# Altium footprint library Miscellaneous Devices LC.PcbLib: 559 footprints (part 14 of 35)
Each footprint in its own frame and in the unit in brackets; x right, y up, seen from the top. Pads: shape width x height; smd on the part's side, far side on the other; paste and mask are expansions set on the pad; w line width, h text height; cw(c..) or ccw(c..) is an arc to the next point about the centre after c.
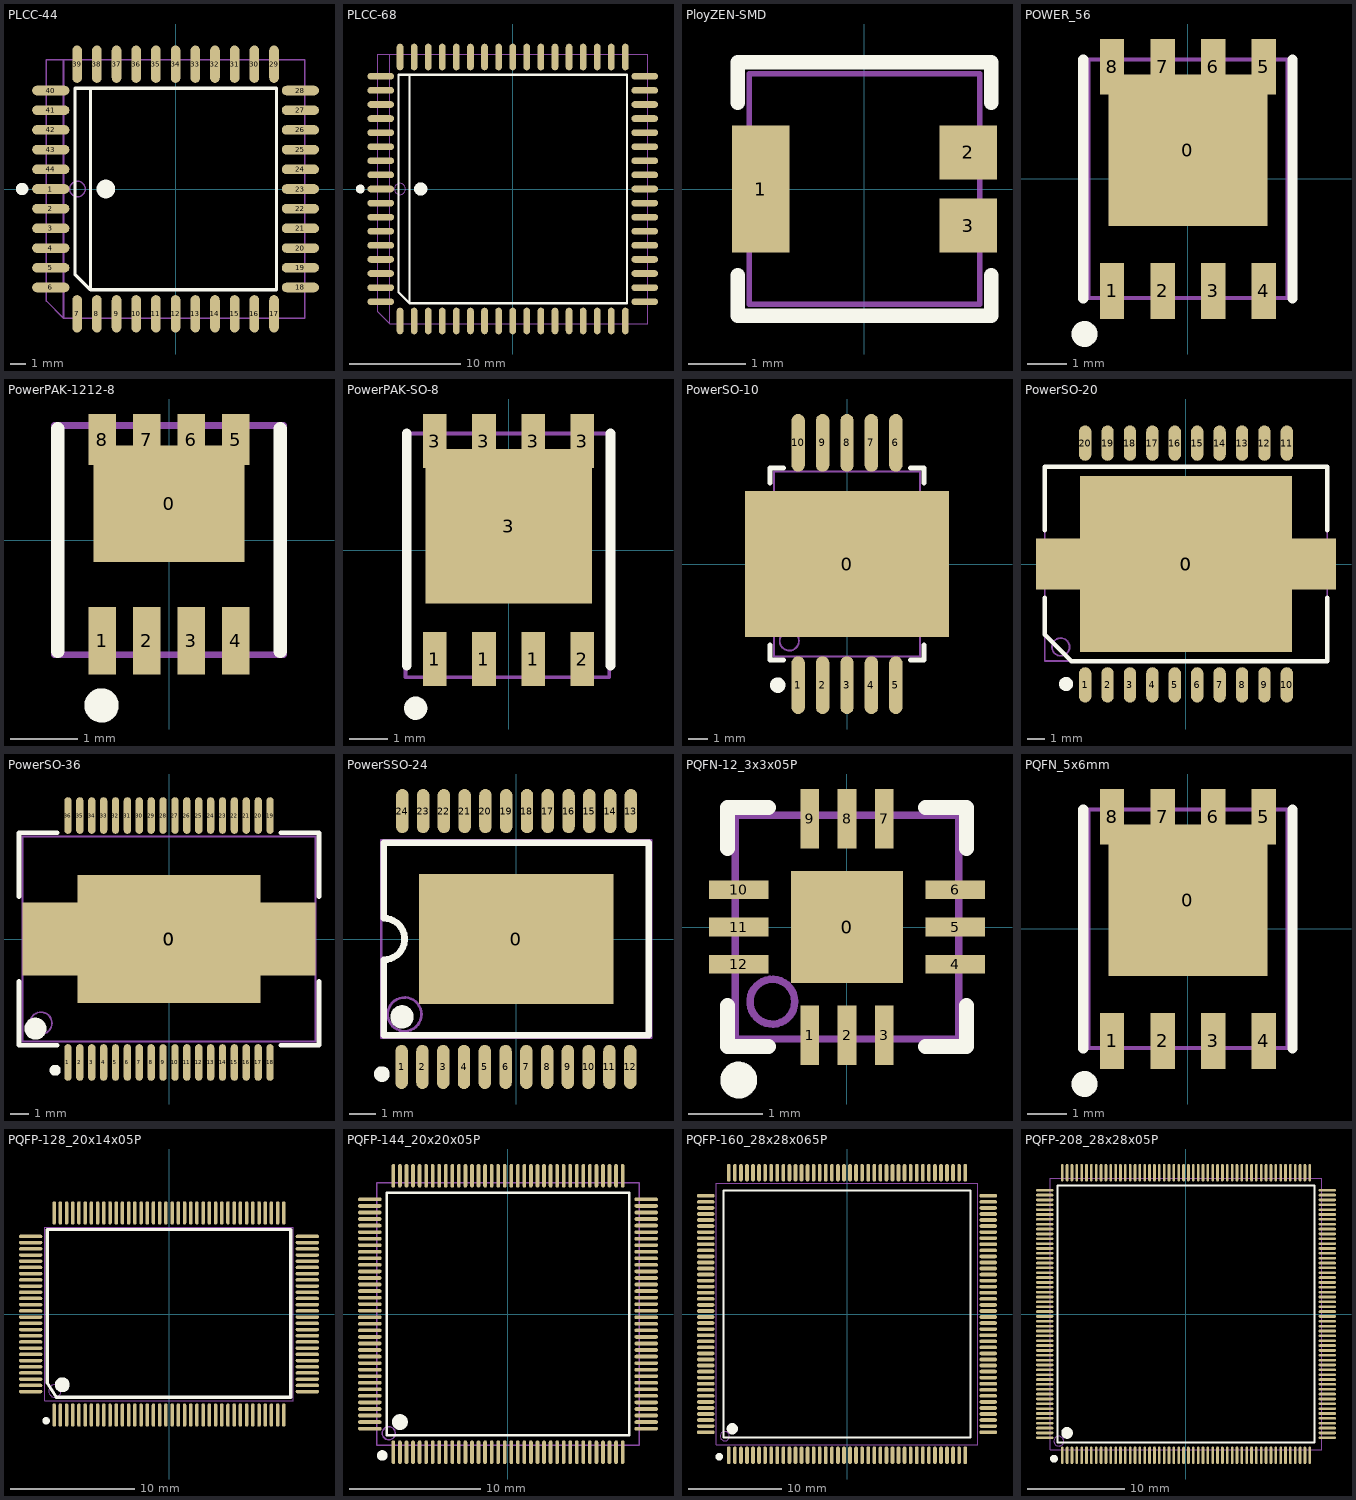
[diagram p13: the footprints below, top view; thin cyan lines are the x and y axes]

## PLCC-44 [mm]
pads (44):
  oval 2.4x0.62 smd: 1(-8.05,0) 2(-8.05,-1.27) 3(-8.05,-2.54) 4(-8.05,-3.81) 5(-8.05,-5.08) 6(-8.05,-6.35) 18(8.05,-6.35) 19(8.05,-5.08) 20(8.05,-3.81) 21(8.05,-2.54) 22(8.05,-1.27) 23(8.05,0) 24(8.05,1.27) 25(8.05,2.54) 26(8.05,3.81) 27(8.05,5.08) 28(8.05,6.35) 40(-8.05,6.35) 41(-8.05,5.08) 42(-8.05,3.81) 43(-8.05,2.54) 44(-8.05,1.27)
  oval 0.62x2.4 smd: 7(-6.35,-8.05) 8(-5.08,-8.05) 9(-3.81,-8.05) 10(-2.54,-8.05) 11(-1.27,-8.05) 12(0,-8.05) 13(1.27,-8.05) 14(2.54,-8.05) 15(3.81,-8.05) 16(5.08,-8.05) 17(6.35,-8.05) 29(6.35,8.05) 30(5.08,8.05) 31(3.81,8.05) 32(2.54,8.05) 33(1.27,8.05) 34(0,8.05) 35(-1.27,8.05) 36(-2.54,8.05) 37(-3.81,8.05) 38(-5.08,8.05) 39(-6.35,8.05)
Top Overlay:
  circle w0.4: c-9.9,0 r0.2
  circle w0.6: c-4.5,0 r0.3
  lines w0.2: -5.5,6.5 -5.5,-6.5 ; -5.5,-6.5 -6.5,-5.5 -6.5,6.5 6.5,6.5 6.5,-6.5 -5.5,-6.5
Mechanical 13:
  circle w0.1: c-6.33,0 r0.5
  lines w0.1: -7.23,8.33 -7.23,-8.33 ; -7.23,-8.33 8.33,-8.33 8.33,8.33 -8.33,8.33 -8.33,-7.23 -7.23,-8.33

## PLCC-68 [mm]
pads (68):
  oval 2.4x0.6 smd: 1(-11.9,0) 2(-11.9,-1.27) 3(-11.9,-2.54) 4(-11.9,-3.81) 5(-11.9,-5.08) 6(-11.9,-6.35) 7(-11.9,-7.62) 8(-11.9,-8.89) 9(-11.9,-10.16) 27(11.9,-10.16) 28(11.9,-8.89) 29(11.9,-7.62) 30(11.9,-6.35) 31(11.9,-5.08) 32(11.9,-3.81) 33(11.9,-2.54) 34(11.9,-1.27) 35(11.9,0) 36(11.9,1.27) 37(11.9,2.54) 38(11.9,3.81) 39(11.9,5.08) 40(11.9,6.35) 41(11.9,7.62) 42(11.9,8.89) 43(11.9,10.16) 61(-11.9,10.16) 62(-11.9,8.89) 63(-11.9,7.62) 64(-11.9,6.35) 65(-11.9,5.08) 66(-11.9,3.81) 67(-11.9,2.54) 68(-11.9,1.27)
  oval 0.6x2.4 smd: 10(-10.16,-11.9) 11(-8.89,-11.9) 12(-7.62,-11.9) 13(-6.35,-11.9) 14(-5.08,-11.9) 15(-3.81,-11.9) 16(-2.54,-11.9) 17(-1.27,-11.9) 18(0,-11.9) 19(1.27,-11.9) 20(2.54,-11.9) 21(3.81,-11.9) 22(5.08,-11.9) 23(6.35,-11.9) 24(7.62,-11.9) 25(8.89,-11.9) 26(10.16,-11.9) 44(10.16,11.9) 45(8.89,11.9) 46(7.62,11.9) 47(6.35,11.9) 48(5.08,11.9) 49(3.81,11.9) 50(2.54,11.9) 51(1.27,11.9) 52(0,11.9) 53(-1.27,11.9) 54(-2.54,11.9) 55(-3.81,11.9) 56(-5.08,11.9) 57(-6.35,11.9) 58(-7.62,11.9) 59(-8.89,11.9) 60(-10.16,11.9)
Top Overlay:
  circle w0.4: c-13.75,0 r0.2
  circle w0.6: c-8.3,0 r0.3
  lines w0.2: -9.3,10.3 -9.3,-10.3 ; -9.3,-10.3 10.3,-10.3 10.3,10.3 -10.3,10.3 -10.3,-9.3 -9.3,-10.3
Mechanical 13:
  circle w0.1: c-10.165,0 r0.5
  lines w0.1: -11.065,12.165 -11.065,-12.165 ; -11.065,-12.165 -12.165,-11.065 -12.165,12.165 12.165,12.165 12.165,-12.165 -11.065,-12.165

## PloyZEN-SMD [mm] "Polymer Enhanced Zener Diode"
pads (3):
  rect 1x2.21 smd: 1(-1.8,0)
  rect 1x0.94 smd: 2(1.8,0.635) 3(1.8,-0.635)
Top Overlay:
  lines w0.254: -2.2,-1.5 -2.2,-2.2 2.2,-2.2 2.2,-1.5 ; -2.2,1.5 -2.2,2.2 2.2,2.2 2.2,1.5
Mechanical 13:
  lines w0.1: -2,-2 2,-2 2,2 -2,2 -2,-2

## POWER_56 [mm]
pads (9):
  rect 4x3.81 smd: 0(0,0.716)
  rect 0.61x1.4 smd: 1(-1.905,-2.816) 2(-0.635,-2.816) 3(0.635,-2.816) 4(1.905,-2.816) 5(1.905,2.816) 6(0.635,2.816) 7(-0.635,2.816) 8(-1.905,2.816)
Top Overlay:
  circle w0.4: c-2.6,-3.9 r0.125
  lines w0.254: -2.63,-3 -2.63,3 ; 2.63,-3 2.63,3
Mechanical 13:
  lines w0.1: -2.5,-3 2.5,-3 2.5,3 -2.5,3 -2.5,-3

## PowerPAK-1212-8 [mm]
pads (9):
  rect 2.235x1.725 smd mask+0.051: 0(0,0.54)
  rect 0.41x1 smd mask+0.051: 1(-0.99,-1.492) 2(-0.33,-1.492) 3(0.33,-1.492) 4(0.99,-1.492)
  rect 0.41x0.76 smd mask+0.051: 5(0.99,1.492) 6(0.33,1.492) 7(-0.33,1.492) 8(-0.99,1.492)
Top Overlay:
  circle w0.254: c-1,-2.45 r0.127
  lines w0.2: -1.65,-1.65 -1.65,1.65 ; 1.65,-1.65 1.65,1.65
Mechanical 13:
  lines w0.1: -1.7,-1.7 1.7,-1.7 1.7,1.7 -1.7,1.7 -1.7,-1.7

## PowerPAK-SO-8 [mm]
pads (9):
  rect 0.61x1.4 smd: 1(-1.905,-2.816) 1(-0.635,-2.816) 1(0.635,-2.816) 2(1.905,-2.816) 3(-1.905,2.816) 3(-0.635,2.816) 3(0.635,2.816) 3(1.905,2.816)
  rect 4.3x4 smd: 3(0,0.616)
Top Overlay:
  circle w0.3: c-2.4,-4.084 r0.15
  lines w0.254: -2.63,-2.984 -2.63,3.016 ; 2.63,-2.984 2.63,3.016
Mechanical 13:
  lines w0.1: -2.66,-3.284 -2.66,3.016 2.6,3.016 2.6,-3.284 -2.66,-3.284
3D body "User Library-PowerPAK SO-8 (S).STEP": height 1.04, standoff 0, extent -2.575,-3.184 2.575,2.966

## PowerSO-10 [mm]
pads (11):
  rect 10.6x7.6 smd: 0(0,0)
  oval 0.7x3 smd: 1(-2.54,-6.3) 2(-1.27,-6.3) 3(0,-6.3) 4(1.27,-6.3) 5(2.54,-6.3) 6(2.54,6.3) 7(1.27,6.3) 8(0,6.3) 9(-1.27,6.3) 10(-2.54,6.3)
Top Overlay:
  circle w0.4: c-3.6,-6.3 r0.2
  lines w0.254: -4,-4.2 -4,-5 -3.3,-5 ; -4,4.2 -4,5 -3.3,5 ; 3.3,-5 4,-5 4,-4.2 ; 3.3,5 4,5 4,4.2
Mechanical 13:
  circle w0.1: c-3,-4 r0.5
  lines w0.1: -3.8,-4.8 -3.8,4.8 3.8,4.8 3.8,-4.8 -3.8,-4.8

## PowerSO-20 [mm]
pads (22):
  rect 17x2.9 smd: 0(0,0)
  rect 12x10 smd: 0(0,0)
  oval 0.7x2 smd: 1(-5.715,-6.85) 2(-4.445,-6.85) 3(-3.175,-6.85) 4(-1.905,-6.85) 5(-0.635,-6.85) 6(0.635,-6.85) 7(1.905,-6.85) 8(3.175,-6.85) 9(4.445,-6.85) 10(5.715,-6.85) 11(5.715,6.85) 12(4.445,6.85) 13(3.175,6.85) 14(1.905,6.85) 15(0.635,6.85) 16(-0.635,6.85) 17(-1.905,6.85) 18(-3.175,6.85) 19(-4.445,6.85) 20(-5.715,6.85)
Top Overlay:
  circle w0.4: c-6.8,-6.8 r0.2
  lines w0.254: -8,-1.9 -8,-4 -6.5,-5.5 8,-5.5 8,-1.9 ; -8,1.9 -8,5.5 8,5.5 8,1.9
Mechanical 13:
  circle w0.1: c-7.1,-4.7 r0.5
  lines w0.1: -8,-5.5 8,-5.5 8,5.5 -8,5.5 -8,-5.5
3D body "PowerSO20.STEP": height 3.6, standoff 0, extent -7.9,-7.35 7.9,7.15

## PowerSO-36 [mm]
pads (38):
  rect 16x4 smd: 0(0,0)
  rect 10x7 smd: 0(0,0)
  oval 0.4x2 smd mask+0.051: 1(-5.525,-6.75) 2(-4.875,-6.75) 3(-4.225,-6.75) 4(-3.575,-6.75) 5(-2.925,-6.75) 6(-2.275,-6.75) 7(-1.625,-6.75) 8(-0.975,-6.75) 9(-0.325,-6.75) 10(0.325,-6.75) 11(0.975,-6.75) 12(1.625,-6.75) 13(2.275,-6.75) 14(2.925,-6.75) 15(3.575,-6.75) 16(4.225,-6.75) 17(4.875,-6.75) 18(5.525,-6.75) 19(5.525,6.75) 20(4.875,6.75) 21(4.225,6.75) 22(3.575,6.75) 23(2.925,6.75) 24(2.275,6.75) 25(1.625,6.75) 26(0.975,6.75) 27(0.325,6.75) 28(-0.325,6.75) 29(-0.975,6.75) 30(-1.625,6.75) 31(-2.275,6.75) 32(-2.925,6.75) 33(-3.575,6.75) 34(-4.225,6.75) 35(-4.875,6.75) 36(-5.525,6.75)
Top Overlay:
  circle w0.6: c-7.3,-4.9 r0.3
  circle w0.3: c-6.225,-7.175 r0.15
  lines w0.254: -8.2,-2.3 -8.2,-5.8 -6.1,-5.8 ; -8.2,2.3 -8.2,5.8 -6.1,5.8 ; 6.1,-5.8 8.2,-5.8 8.2,-2.3 ; 6.1,5.8 8.2,5.8 8.2,2.3
Mechanical 13:
  circle w0.1: c-7,-4.6 r0.6
  lines w0.1: -8,-5.6 8,-5.6 8,5.6 -8,5.6 -8,-5.6

## PowerSSO-24 [mm]
pads (25):
  rect 7.5x5 smd: 0(0,0)
  oval 0.48x1.7 smd: 1(-4.412,-4.925) 2(-3.612,-4.925) 3(-2.812,-4.925) 4(-2.012,-4.925) 5(-1.212,-4.925) 6(-0.412,-4.925) 7(0.388,-4.925) 8(1.188,-4.925) 9(1.988,-4.925) 10(2.788,-4.925) 11(3.588,-4.925) 12(4.388,-4.925) 13(4.412,4.925) 14(3.612,4.925) 15(2.812,4.925) 16(2.012,4.925) 17(1.212,4.925) 18(0.412,4.925) 19(-0.388,4.925) 20(-1.188,4.925) 21(-1.988,4.925) 22(-2.788,4.925) 23(-3.588,4.925) 24(-4.388,4.925)
Top Overlay:
  circle w0.5: c-4.4,-3 r0.2
  circle w0.3: c-5.175,-5.2 r0.15
  lines w0.254: -5.1,-3.7 -5.1,-0.8 ccw(c-5.1,0) -5.1,0.8 -5.1,3.7 5.1,3.7 5.1,-3.7 -5.1,-3.7
Mechanical 13:
  circle w0.1: c-4.3,-2.9 r0.65
  lines w0.1: -5.2,-3.8 5.2,-3.8 5.2,3.8 -5.2,3.8 -5.2,-3.8

## PQFN-12_3x3x05P [mm]
pads (13):
  rect 1.5x1.5 smd mask+0.051: 0(0,0)
  rect 0.25x0.8 smd mask+0.051: 1(-0.5,-1.45) 2(0,-1.45) 3(0.5,-1.45) 7(0.5,1.45) 8(0,1.45) 9(-0.5,1.45)
  rect 0.8x0.25 smd mask+0.051: 4(1.45,-0.5) 5(1.45,0) 6(1.45,0.5) 10(-1.45,0.5) 11(-1.45,0) 12(-1.45,-0.5)
Top Overlay:
  circle w0.254: c-1.45,-2.05 r0.12
  lines w0.2: -1.6,-1.05 -1.6,-1.6 -1.05,-1.6 ; -1.6,1.05 -1.6,1.6 -1.05,1.6 ; 1.05,-1.6 1.6,-1.6 1.6,-1.05 ; 1.05,1.6 1.6,1.6 1.6,1.05
Mechanical 13:
  circle w0.1: c-1,-1 r0.3
  lines w0.1: -1.5,-1.5 -1.5,1.5 1.5,1.5 1.5,-1.5 -1.5,-1.5

## PQFN_5x6mm [mm]
pads (9):
  rect 4x3.81 smd: 0(0,0.716)
  rect 0.61x1.4 smd: 1(-1.905,-2.816) 2(-0.635,-2.816) 3(0.635,-2.816) 4(1.905,-2.816) 5(1.905,2.816) 6(0.635,2.816) 7(-0.635,2.816) 8(-1.905,2.816)
Top Overlay:
  circle w0.4: c-2.6,-3.9 r0.125
  lines w0.254: -2.63,-3 -2.63,3 ; 2.63,-3 2.63,3
Mechanical 13:
  lines w0.1: -2.5,-3 2.5,-3 2.5,3 -2.5,3 -2.5,-3

## PQFP-128_20x14x05P [mm]
pads (128):
  oval 0.28x1.88 smd mask+0.051: 1(-9.25,-8.14) 2(-8.75,-8.14) 3(-8.25,-8.14) 4(-7.75,-8.14) 5(-7.25,-8.14) 6(-6.75,-8.14) 7(-6.25,-8.14) 8(-5.75,-8.14) 9(-5.25,-8.14) 10(-4.75,-8.14) 11(-4.25,-8.14) 12(-3.75,-8.14) 13(-3.25,-8.14) 14(-2.75,-8.14) 15(-2.25,-8.14) 16(-1.75,-8.14) 17(-1.25,-8.14) 18(-0.75,-8.14) 19(-0.25,-8.14) 20(0.25,-8.14) 21(0.75,-8.14) 22(1.25,-8.14) 23(1.75,-8.14) 24(2.25,-8.14) 25(2.75,-8.14) 26(3.25,-8.14) 27(3.75,-8.14) 28(4.25,-8.14) 29(4.75,-8.14) 30(5.25,-8.14) 31(5.75,-8.14) 32(6.25,-8.14) 33(6.75,-8.14) 34(7.25,-8.14) 35(7.75,-8.14) 36(8.25,-8.14) 37(8.75,-8.14) 38(9.25,-8.14) 65(9.25,8.14) 66(8.75,8.14) 67(8.25,8.14) 68(7.75,8.14) 69(7.25,8.14) 70(6.75,8.14) 71(6.25,8.14) 72(5.75,8.14) 73(5.25,8.14) 74(4.75,8.14) 75(4.25,8.14) 76(3.75,8.14) 77(3.25,8.14) 78(2.75,8.14) 79(2.25,8.14) 80(1.75,8.14) 81(1.25,8.14) 82(0.75,8.14) 83(0.25,8.14) 84(-0.25,8.14) 85(-0.75,8.14) 86(-1.25,8.14) 87(-1.75,8.14) 88(-2.25,8.14) 89(-2.75,8.14) 90(-3.25,8.14) 91(-3.75,8.14) 92(-4.25,8.14) 93(-4.75,8.14) 94(-5.25,8.14) 95(-5.75,8.14) 96(-6.25,8.14) 97(-6.75,8.14) 98(-7.25,8.14) 99(-7.75,8.14) 100(-8.25,8.14) 101(-8.75,8.14) 102(-9.25,8.14)
  oval 1.88x0.28 smd mask+0.051: 39(11.14,-6.25) 40(11.14,-5.75) 41(11.14,-5.25) 42(11.14,-4.75) 43(11.14,-4.25) 44(11.14,-3.75) 45(11.14,-3.25) 46(11.14,-2.75) 47(11.14,-2.25) 48(11.14,-1.75) 49(11.14,-1.25) 50(11.14,-0.75) 51(11.14,-0.25) 52(11.14,0.25) 53(11.14,0.75) 54(11.14,1.25) 55(11.14,1.75) 56(11.14,2.25) 57(11.14,2.75) 58(11.14,3.25) 59(11.14,3.75) 60(11.14,4.25) 61(11.14,4.75) 62(11.14,5.25) 63(11.14,5.75) 64(11.14,6.25) 103(-11.14,6.25) 104(-11.14,5.75) 105(-11.14,5.25) 106(-11.14,4.75) 107(-11.14,4.25) 108(-11.14,3.75) 109(-11.14,3.25) 110(-11.14,2.75) 111(-11.14,2.25) 112(-11.14,1.75) 113(-11.14,1.25) 114(-11.14,0.75) 115(-11.14,0.25) 116(-11.14,-0.25) 117(-11.14,-0.75) 118(-11.14,-1.25) 119(-11.14,-1.75) 120(-11.14,-2.25) 121(-11.14,-2.75) 122(-11.14,-3.25) 123(-11.14,-3.75) 124(-11.14,-4.25) 125(-11.14,-4.75) 126(-11.14,-5.25) 127(-11.14,-5.75) 128(-11.14,-6.25)
Top Overlay:
  circle w0.3: c-9.9,-8.6 r0.15
  circle w0.6: c-8.6,-5.7 r0.3
  lines w0.254: -9.8,-5.56 -9.8,6.8 9.8,6.8 9.8,-6.7 -9.087,-6.7 -9.8,-5.56
Mechanical 13:
  circle w0.1: c-9.2,-6.2 r0.5
  lines w0.1: -10,-7 -10,7 10,7 10,-7 -10,-7

## PQFP-144_20x20x05P [mm]
pads (144):
  oval 0.28x1.8 smd mask+0.051: 1(-8.75,-10.55) 2(-8.25,-10.55) 3(-7.75,-10.55) 4(-7.25,-10.55) 5(-6.75,-10.55) 6(-6.25,-10.55) 7(-5.75,-10.55) 8(-5.25,-10.55) 9(-4.75,-10.55) 10(-4.25,-10.55) 11(-3.75,-10.55) 12(-3.25,-10.55) 13(-2.75,-10.55) 14(-2.25,-10.55) 15(-1.75,-10.55) 16(-1.25,-10.55) 17(-0.75,-10.55) 18(-0.25,-10.55) 19(0.25,-10.55) 20(0.75,-10.55) 21(1.25,-10.55) 22(1.75,-10.55) 23(2.25,-10.55) 24(2.75,-10.55) 25(3.25,-10.55) 26(3.75,-10.55) 27(4.25,-10.55) 28(4.75,-10.55) 29(5.25,-10.55) 30(5.75,-10.55) 31(6.25,-10.55) 32(6.75,-10.55) 33(7.25,-10.55) 34(7.75,-10.55) 35(8.25,-10.55) 36(8.75,-10.55) 73(8.75,10.55) 74(8.25,10.55) 75(7.75,10.55) 76(7.25,10.55) 77(6.75,10.55) 78(6.25,10.55) 79(5.75,10.55) 80(5.25,10.55) 81(4.75,10.55) 82(4.25,10.55) 83(3.75,10.55) 84(3.25,10.55) 85(2.75,10.55) 86(2.25,10.55) 87(1.75,10.55) 88(1.25,10.55) 89(0.75,10.55) 90(0.25,10.55) 91(-0.25,10.55) 92(-0.75,10.55) 93(-1.25,10.55) 94(-1.75,10.55) 95(-2.25,10.55) 96(-2.75,10.55) 97(-3.25,10.55) 98(-3.75,10.55) 99(-4.25,10.55) 100(-4.75,10.55) 101(-5.25,10.55) 102(-5.75,10.55) 103(-6.25,10.55) 104(-6.75,10.55) 105(-7.25,10.55) 106(-7.75,10.55) 107(-8.25,10.55) 108(-8.75,10.55)
  oval 1.8x0.28 smd mask+0.051: 37(10.55,-8.75) 38(10.55,-8.25) 39(10.55,-7.75) 40(10.55,-7.25) 41(10.55,-6.75) 42(10.55,-6.25) 43(10.55,-5.75) 44(10.55,-5.25) 45(10.55,-4.75) 46(10.55,-4.25) 47(10.55,-3.75) 48(10.55,-3.25) 49(10.55,-2.75) 50(10.55,-2.25) 51(10.55,-1.75) 52(10.55,-1.25) 53(10.55,-0.75) 54(10.55,-0.25) 55(10.55,0.25) 56(10.55,0.75) 57(10.55,1.25) 58(10.55,1.75) 59(10.55,2.25) 60(10.55,2.75) 61(10.55,3.25) 62(10.55,3.75) 63(10.55,4.25) 64(10.55,4.75) 65(10.55,5.25) 66(10.55,5.75) 67(10.55,6.25) 68(10.55,6.75) 69(10.55,7.25) 70(10.55,7.75) 71(10.55,8.25) 72(10.55,8.75) 109(-10.55,8.75) 110(-10.55,8.25) 111(-10.55,7.75) 112(-10.55,7.25) 113(-10.55,6.75) 114(-10.55,6.25) 115(-10.55,5.75) 116(-10.55,5.25) 117(-10.55,4.75) 118(-10.55,4.25) 119(-10.55,3.75) 120(-10.55,3.25) 121(-10.55,2.75) 122(-10.55,2.25) 123(-10.55,1.75) 124(-10.55,1.25) 125(-10.55,0.75) 126(-10.55,0.25) 127(-10.55,-0.25) 128(-10.55,-0.75) 129(-10.55,-1.25) 130(-10.55,-1.75) 131(-10.55,-2.25) 132(-10.55,-2.75) 133(-10.55,-3.25) 134(-10.55,-3.75) 135(-10.55,-4.25) 136(-10.55,-4.75) 137(-10.55,-5.25) 138(-10.55,-5.75) 139(-10.55,-6.25) 140(-10.55,-6.75) 141(-10.55,-7.25) 142(-10.55,-7.75) 143(-10.55,-8.25) 144(-10.55,-8.75)
Top Overlay:
  circle w0.6: c-8.25,-8.25 r0.3
  circle w0.4: c-9.6,-10.8 r0.2
  lines w0.2: -9.25,-9.25 -9.25,9.25 9.25,9.25 9.25,-9.25 -9.25,-9.25
Mechanical 13:
  circle w0.1: c-9.1,-9.1 r0.5
  lines w0.1: -10,-10 -10,10 10,10 10,-10 -10,-10

## PQFP-160_28x28x065P [mm]
pads (160):
  oval 0.4x1.88 smd mask+0.051: 1(-12.675,-15.14) 2(-12.025,-15.14) 3(-11.375,-15.14) 4(-10.725,-15.14) 5(-10.075,-15.14) 6(-9.425,-15.14) 7(-8.775,-15.14) 8(-8.125,-15.14) 9(-7.475,-15.14) 10(-6.825,-15.14) 11(-6.175,-15.14) 12(-5.525,-15.14) 13(-4.875,-15.14) 14(-4.225,-15.14) 15(-3.575,-15.14) 16(-2.925,-15.14) 17(-2.275,-15.14) 18(-1.625,-15.14) 19(-0.975,-15.14) 20(-0.325,-15.14) 21(0.325,-15.14) 22(0.975,-15.14) 23(1.625,-15.14) 24(2.275,-15.14) 25(2.925,-15.14) 26(3.575,-15.14) 27(4.225,-15.14) 28(4.875,-15.14) 29(5.525,-15.14) 30(6.175,-15.14) 31(6.825,-15.14) 32(7.475,-15.14) 33(8.125,-15.14) 34(8.775,-15.14) 35(9.425,-15.14) 36(10.075,-15.14) 37(10.725,-15.14) 38(11.375,-15.14) 39(12.025,-15.14) 40(12.675,-15.14) 81(12.675,15.14) 82(12.025,15.14) 83(11.375,15.14) 84(10.725,15.14) 85(10.075,15.14) 86(9.425,15.14) 87(8.775,15.14) 88(8.125,15.14) 89(7.475,15.14) 90(6.825,15.14) 91(6.175,15.14) 92(5.525,15.14) 93(4.875,15.14) 94(4.225,15.14) 95(3.575,15.14) 96(2.925,15.14) 97(2.275,15.14) 98(1.625,15.14) 99(0.975,15.14) 100(0.325,15.14) 101(-0.325,15.14) 102(-0.975,15.14) 103(-1.625,15.14) 104(-2.275,15.14) 105(-2.925,15.14) 106(-3.575,15.14) 107(-4.225,15.14) 108(-4.875,15.14) 109(-5.525,15.14) 110(-6.175,15.14) 111(-6.825,15.14) 112(-7.475,15.14) 113(-8.125,15.14) 114(-8.775,15.14) 115(-9.425,15.14) 116(-10.075,15.14) 117(-10.725,15.14) 118(-11.375,15.14) 119(-12.025,15.14) 120(-12.675,15.14)
  oval 1.88x0.4 smd mask+0.051: 41(15.14,-12.675) 42(15.14,-12.025) 43(15.14,-11.375) 44(15.14,-10.725) 45(15.14,-10.075) 46(15.14,-9.425) 47(15.14,-8.775) 48(15.14,-8.125) 49(15.14,-7.475) 50(15.14,-6.825) 51(15.14,-6.175) 52(15.14,-5.525) 53(15.14,-4.875) 54(15.14,-4.225) 55(15.14,-3.575) 56(15.14,-2.925) 57(15.14,-2.275) 58(15.14,-1.625) 59(15.14,-0.975) 60(15.14,-0.325) 61(15.14,0.325) 62(15.14,0.975) 63(15.14,1.625) 64(15.14,2.275) 65(15.14,2.925) 66(15.14,3.575) 67(15.14,4.225) 68(15.14,4.875) 69(15.14,5.525) 70(15.14,6.175) 71(15.14,6.825) 72(15.14,7.475) 73(15.14,8.125) 74(15.14,8.775) 75(15.14,9.425) 76(15.14,10.075) 77(15.14,10.725) 78(15.14,11.375) 79(15.14,12.025) 80(15.14,12.675) 121(-15.14,12.675) 122(-15.14,12.025) 123(-15.14,11.375) 124(-15.14,10.725) 125(-15.14,10.075) 126(-15.14,9.425) 127(-15.14,8.775) 128(-15.14,8.125) 129(-15.14,7.475) 130(-15.14,6.825) 131(-15.14,6.175) 132(-15.14,5.525) 133(-15.14,4.875) 134(-15.14,4.225) 135(-15.14,3.575) 136(-15.14,2.925) 137(-15.14,2.275) 138(-15.14,1.625) 139(-15.14,0.975) 140(-15.14,0.325) 141(-15.14,-0.325) 142(-15.14,-0.975) 143(-15.14,-1.625) 144(-15.14,-2.275) 145(-15.14,-2.925) 146(-15.14,-3.575) 147(-15.14,-4.225) 148(-15.14,-4.875) 149(-15.14,-5.525) 150(-15.14,-6.175) 151(-15.14,-6.825) 152(-15.14,-7.475) 153(-15.14,-8.125) 154(-15.14,-8.775) 155(-15.14,-9.425) 156(-15.14,-10.075) 157(-15.14,-10.725) 158(-15.14,-11.375) 159(-15.14,-12.025) 160(-15.14,-12.675)
Top Overlay:
  circle w0.6: c-12.3,-12.3 r0.3
  circle w0.4: c-13.7,-15.3 r0.2
  lines w0.2: -13.25,-13.25 -13.25,13.25 13.25,13.25 13.25,-13.25 -13.25,-13.25
Mechanical 13:
  circle w0.1: c-13.1,-13.1 r0.5
  lines w0.1: -14,-14 -14,14 14,14 14,-14 -14,-14

## PQFP-208_28x28x05P [mm]
pads (208):
  oval 0.28x1.8 smd mask+0.051: 1(-12.75,-14.55) 2(-12.25,-14.55) 3(-11.75,-14.55) 4(-11.25,-14.55) 5(-10.75,-14.55) 6(-10.25,-14.55) 7(-9.75,-14.55) 8(-9.25,-14.55) 9(-8.75,-14.55) 10(-8.25,-14.55) 11(-7.75,-14.55) 12(-7.25,-14.55) 13(-6.75,-14.55) 14(-6.25,-14.55) 15(-5.75,-14.55) 16(-5.25,-14.55) 17(-4.75,-14.55) 18(-4.25,-14.55) 19(-3.75,-14.55) 20(-3.25,-14.55) 21(-2.75,-14.55) 22(-2.25,-14.55) 23(-1.75,-14.55) 24(-1.25,-14.55) 25(-0.75,-14.55) 26(-0.25,-14.55) 27(0.25,-14.55) 28(0.75,-14.55) 29(1.25,-14.55) 30(1.75,-14.55) 31(2.25,-14.55) 32(2.75,-14.55) 33(3.25,-14.55) 34(3.75,-14.55) 35(4.25,-14.55) 36(4.75,-14.55) 37(5.25,-14.55) 38(5.75,-14.55) 39(6.25,-14.55) 40(6.75,-14.55) 41(7.25,-14.55) 42(7.75,-14.55) 43(8.25,-14.55) 44(8.75,-14.55) 45(9.25,-14.55) 46(9.75,-14.55) 47(10.25,-14.55) 48(10.75,-14.55) 49(11.25,-14.55) 50(11.75,-14.55) 51(12.25,-14.55) 52(12.75,-14.55) 105(12.75,14.55) 106(12.25,14.55) 107(11.75,14.55) 108(11.25,14.55) 109(10.75,14.55) 110(10.25,14.55) 111(9.75,14.55) 112(9.25,14.55) 113(8.75,14.55) 114(8.25,14.55) 115(7.75,14.55) 116(7.25,14.55) 117(6.75,14.55) 118(6.25,14.55) 119(5.75,14.55) 120(5.25,14.55) 121(4.75,14.55) 122(4.25,14.55) 123(3.75,14.55) 124(3.25,14.55) 125(2.75,14.55) 126(2.25,14.55) 127(1.75,14.55) 128(1.25,14.55) 129(0.75,14.55) 130(0.25,14.55) 131(-0.25,14.55) 132(-0.75,14.55) 133(-1.25,14.55) 134(-1.75,14.55) 135(-2.25,14.55) 136(-2.75,14.55) 137(-3.25,14.55) 138(-3.75,14.55) 139(-4.25,14.55) 140(-4.75,14.55) 141(-5.25,14.55) 142(-5.75,14.55) 143(-6.25,14.55) 144(-6.75,14.55) 145(-7.25,14.55) 146(-7.75,14.55) 147(-8.25,14.55) 148(-8.75,14.55) 149(-9.25,14.55) 150(-9.75,14.55) 151(-10.25,14.55) 152(-10.75,14.55) 153(-11.25,14.55) 154(-11.75,14.55) 155(-12.25,14.55) 156(-12.75,14.55)
  oval 1.8x0.28 smd mask+0.051: 53(14.55,-12.75) 54(14.55,-12.25) 55(14.55,-11.75) 56(14.55,-11.25) 57(14.55,-10.75) 58(14.55,-10.25) 59(14.55,-9.75) 60(14.55,-9.25) 61(14.55,-8.75) 62(14.55,-8.25) 63(14.55,-7.75) 64(14.55,-7.25) 65(14.55,-6.75) 66(14.55,-6.25) 67(14.55,-5.75) 68(14.55,-5.25) 69(14.55,-4.75) 70(14.55,-4.25) 71(14.55,-3.75) 72(14.55,-3.25) 73(14.55,-2.75) 74(14.55,-2.25) 75(14.55,-1.75) 76(14.55,-1.25) 77(14.55,-0.75) 78(14.55,-0.25) 79(14.55,0.25) 80(14.55,0.75) 81(14.55,1.25) 82(14.55,1.75) 83(14.55,2.25) 84(14.55,2.75) 85(14.55,3.25) 86(14.55,3.75) 87(14.55,4.25) 88(14.55,4.75) 89(14.55,5.25) 90(14.55,5.75) 91(14.55,6.25) 92(14.55,6.75) 93(14.55,7.25) 94(14.55,7.75) 95(14.55,8.25) 96(14.55,8.75) 97(14.55,9.25) 98(14.55,9.75) 99(14.55,10.25) 100(14.55,10.75) 101(14.55,11.25) 102(14.55,11.75) 103(14.55,12.25) 104(14.55,12.75) 157(-14.55,12.75) 158(-14.55,12.25) 159(-14.55,11.75) 160(-14.55,11.25) 161(-14.55,10.75) 162(-14.55,10.25) 163(-14.55,9.75) 164(-14.55,9.25) 165(-14.55,8.75) 166(-14.55,8.25) 167(-14.55,7.75) 168(-14.55,7.25) 169(-14.55,6.75) 170(-14.55,6.25) 171(-14.55,5.75) 172(-14.55,5.25) 173(-14.55,4.75) 174(-14.55,4.25) 175(-14.55,3.75) 176(-14.55,3.25) 177(-14.55,2.75) 178(-14.55,2.25) 179(-14.55,1.75) 180(-14.55,1.25) 181(-14.55,0.75) 182(-14.55,0.25) 183(-14.55,-0.25) 184(-14.55,-0.75) 185(-14.55,-1.25) 186(-14.55,-1.75) 187(-14.55,-2.25) 188(-14.55,-2.75) 189(-14.55,-3.25) 190(-14.55,-3.75) 191(-14.55,-4.25) 192(-14.55,-4.75) 193(-14.55,-5.25) 194(-14.55,-5.75) 195(-14.55,-6.25) 196(-14.55,-6.75) 197(-14.55,-7.25) 198(-14.55,-7.75) 199(-14.55,-8.25) 200(-14.55,-8.75) 201(-14.55,-9.25) 202(-14.55,-9.75) 203(-14.55,-10.25) 204(-14.55,-10.75) 205(-14.55,-11.25) 206(-14.55,-11.75) 207(-14.55,-12.25) 208(-14.55,-12.75)
Top Overlay:
  circle w0.6: c-12.25,-12.25 r0.3
  circle w0.4: c-13.6,-14.9 r0.2
  lines w0.2: -13.25,-13.25 13.25,-13.25 13.25,13.25 -13.25,13.25 -13.25,-13.25
Mechanical 13:
  circle w0.1: c-13.1,-13.1 r0.5
  lines w0.1: -14,-14 14,-14 14,14 -14,14 -14,-14